# Altium footprint library 691252710003.PcbLib: 1 footprints
Each footprint in its own frame and in the unit in brackets; x right, y up, seen from the top. Pads: shape width x height; smd on the part's side, far side on the other; paste and mask are expansions set on the pad; w line width, h text height; cw(c..) or ccw(c..) is an arc to the next point about the centre after c.
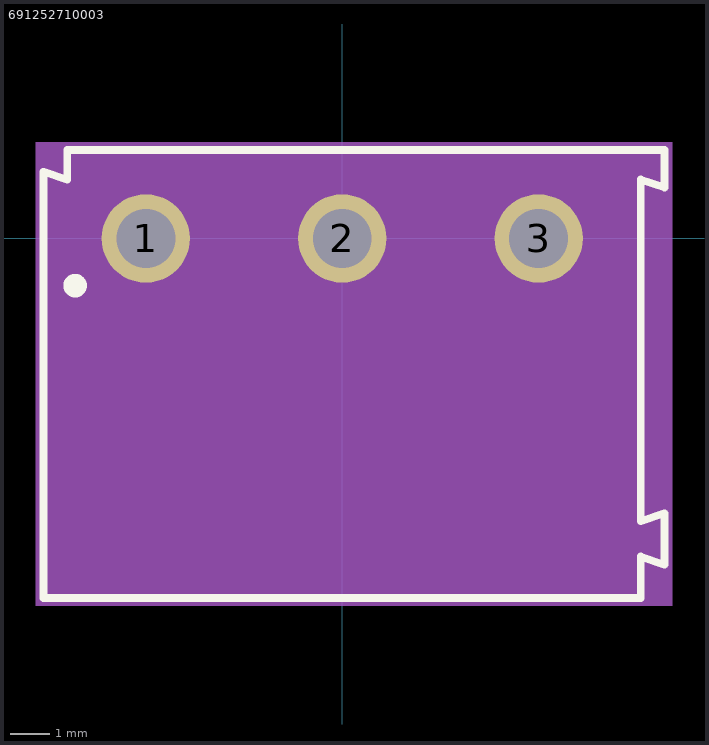
[diagram p0: the footprint, top view; thin cyan lines are the x and y axes]

## 691252710003 [mm]
pads (3):
  round 2.25 hole 1.5: 1(-5,0) 2(0,0) 3(5,0)
Top Overlay:
  circle w0.4: c-6.8,-1.2 r0.1
  lines w0.2: -7.6,-9.15 -7.6,1.7 -7,1.5 -7,2.25 8.2,2.25 8.2,1.3 7.6,1.5 7.6,-7.2 8.2,-7 8.2,-8.3 7.6,-8.1 7.6,-9.15 -7.6,-9.15
Assembly Top:
  lines w0.1: -7.5,-9.05 -7.5,1.56 -6.9,1.39 -6.9,2.15 8.1,2.15 8.1,1.39 7.5,1.56 7.5,-7.31 8.1,-7.135 8.1,-8.165 7.5,-7.99 7.5,-9.05 -7.5,-9.05
Courtyard Top:
  region: 8.4,-9.35 -7.8,-9.35 -7.8,2.45 8.4,2.45
3D body "step_temp.STEP": height 17.5, standoff -3, extent -7.546,-9.017 8.054,2.183